# Altium footprint library footprints_library_legacy.pcblib: 29 footprints (part 2 of 2)
Each footprint in its own frame and in the unit in brackets; x right, y up, seen from the top. Pads: shape width x height; smd on the part's side, far side on the other; paste and mask are expansions set on the pad; w line width, h text height; cw(c..) or ccw(c..) is an arc to the next point about the centre after c.
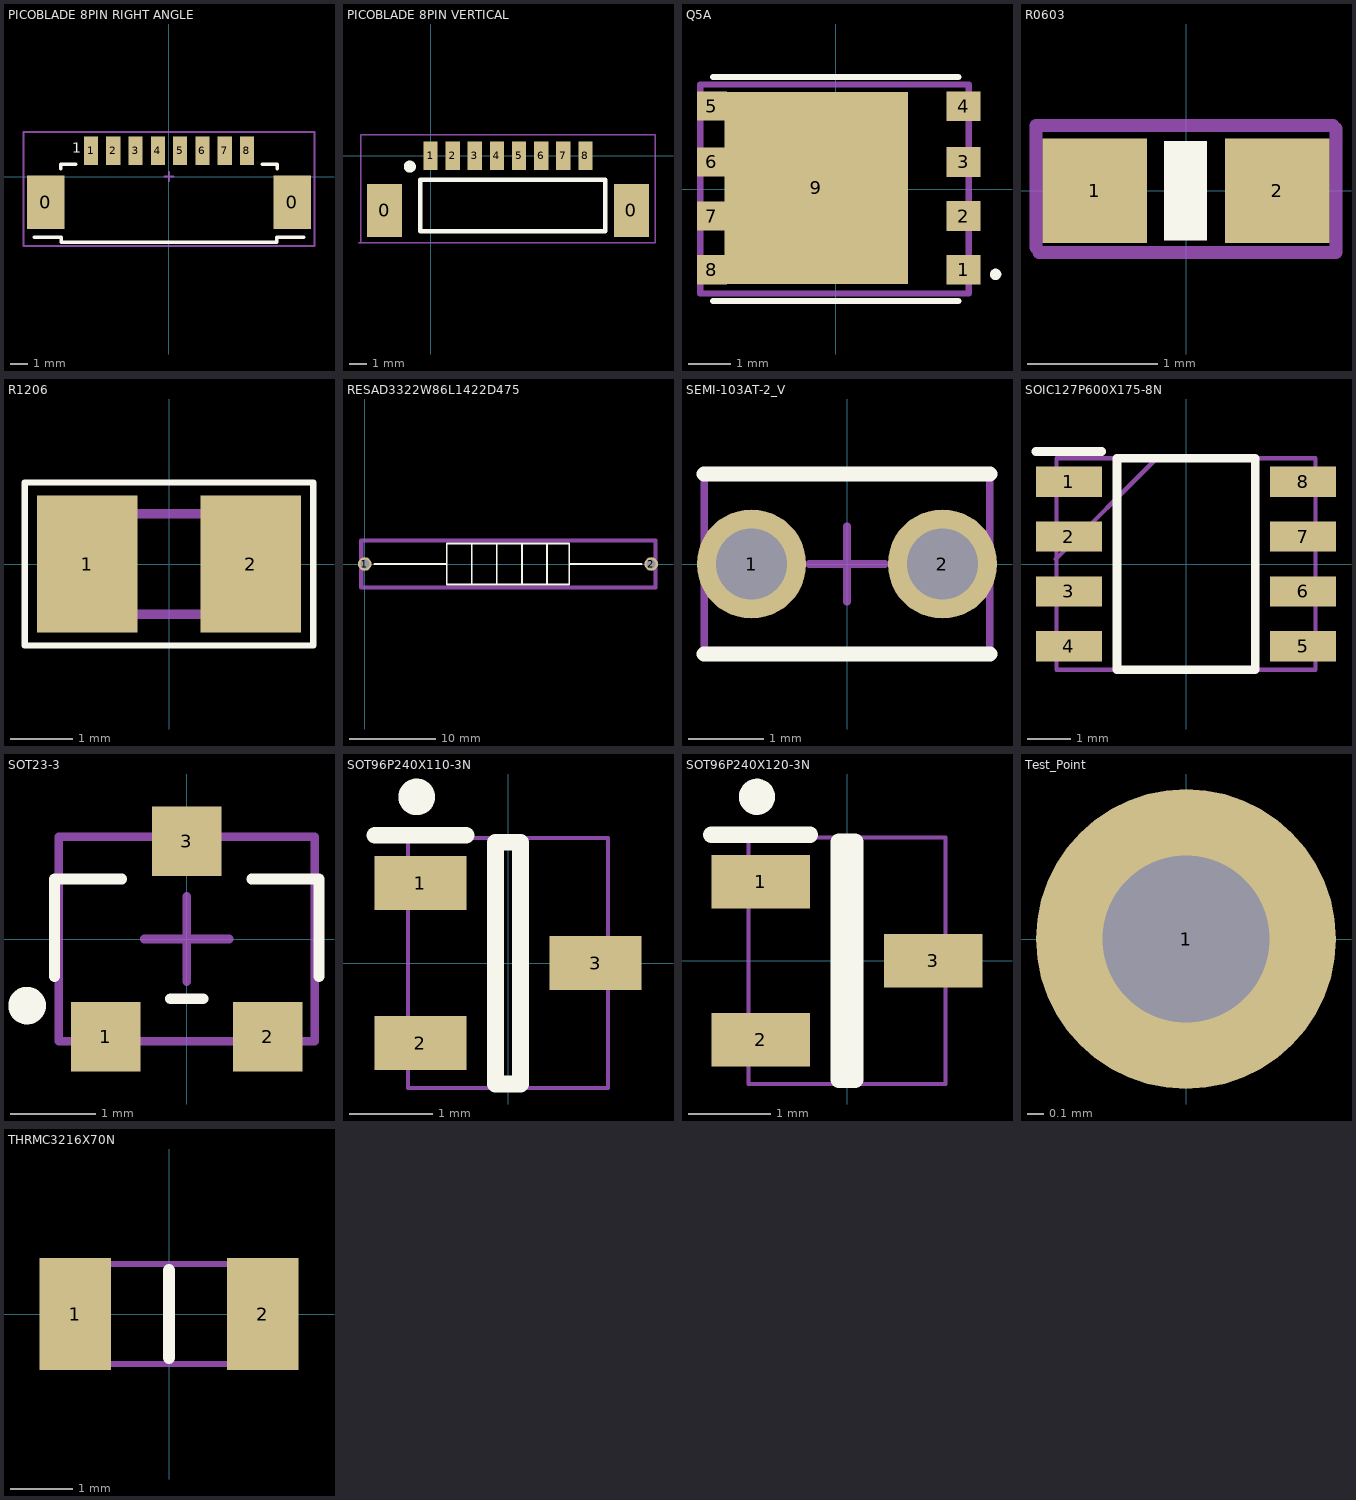
[diagram p1: the footprints below, top view; thin cyan lines are the x and y axes]

## PICOBLADE 8PIN RIGHT ANGLE [mm]
height 3.4
pads (10):
  rect 2.1x3 smd: 0(-6.925,-1.45) 0(6.925,-1.45)
  rect 0.8x1.6 smd: 1(-4.375,1.45) 2(-3.125,1.45) 3(-1.875,1.45) 4(-0.625,1.45) 5(0.625,1.45) 6(1.875,1.45) 7(3.125,1.45) 8(4.375,1.45)
Top Overlay:
  lines w0.2: -7.575,-3.4 -6.061,-3.4 -6.061,-3.7 6.061,-3.7 6.061,-3.4 7.575,-3.4 ; -6.075,0.45 -6.075,0.7 -5.25,0.7 ; 5.25,0.7 6.075,0.7 6.075,0.45
  text "1" at -5.425,1.15 h1
Top ASM Top/ASM Bottom:
  lines w0.1: -0.25,0 0.25,0 ; 0,-0.25 0,0.25 ; -8.175,-3.9 -8.175,2.5 8.175,2.5 8.175,-3.9 -8.175,-3.9
  text ".Designator" at -4.141,1.088 h0.89
3D body "User Library-molex 53261 white (6).step": height 3.5, standoff 0, extent -7.575,-3.6 7.575,1.6

## PICOBLADE 8PIN VERTICAL [mm]
height 3.1
pads (10):
  rect 2x3 smd: 0(-2.6,-3.1) 0(11.35,-3.1)
  rect 0.8x1.6 smd: 1(0,0) 2(1.25,0) 3(2.5,0) 4(3.75,0) 5(5,0) 6(6.25,0) 7(7.5,0) 8(8.75,0)
Top Overlay:
  circle w0.5: c-1.175,-0.625 r0.09
  lines w0.254: -0.574,-4.275 -0.574,-1.372 9.875,-1.372 9.875,-4.275 -0.574,-4.275
Top ASM Top/ASM Bottom:
  lines w0.1: -4.05,-4.925 12.7,-4.925 12.7,1.175 -3.95,1.175 -3.95,-4.95
  text ".Designator" at -3.341,-1.212 h0.89
3D body "User Library-molex 5339853398-0871.STEP": height 4.7, standoff 0, extent -3.225,-4.4 11.925,-0.2

## Q5A [mm]
pads (9):
  rect 0.8x0.7 smd: 1(3,-1.893) 2(3,-0.635) 3(3,0.635) 4(3,1.94)
  rect 0.7x0.68 smd: 5(-2.9,1.94) 6(-2.9,0.635) 7(-2.9,-0.635) 8(-2.9,-1.893)
  rect 4.3x4.5 smd: 9(-0.45,0.025)
Top Overlay:
  circle w0.2: c3.75,-2 r0.033
  lines w0.15: -2.875,-2.625 2.875,-2.625 ; -2.875,2.625 2.875,2.625
Top ASM Top/ASM Bottom:
  lines w0.15: -3.175,-2.45 3.125,-2.45 3.125,2.45 -3.175,2.45 -3.175,-2.45
  text "'.Designator'" at -2.375,1.55 h0.5
3D body "DQJ0008A.stp": height 1.15, standoff 0, extent -3.13,-2.45 3.13,2.45

## R0603 [mm]
height 3.1
pads (2):
  rect 0.8x0.8 smd: 1(-0.699,0) 2(0.699,0)
Top Overlay:
  rectangle: -0.167,-0.381 0.163,0.381
Top ASM Top/ASM Bottom:
  lines w0.1: -1.15,-0.437 -1.15,-0.206 -1.15,0.256 -1.15,0.487 ; -1.15,0.5 1.125,0.5 ; -1.125,-0.475 1.15,-0.475 1.15,0.475
  text ".Designator" at -0.916,-0.112 h0.89
3D body "RES0603(1608M).STEP": height 0.79, standoff 0, extent -0.998,-0.394 1.002,0.394

## R1206 [mm]
pads (2):
  rect 1.6x2.18 smd: 1(-1.3,0) 2(1.3,0)
Top Overlay:
  lines w0.1: -2.3,-1.3 2.3,-1.3 2.3,1.3 -2.3,1.3 -2.3,-1.3
Top ASM Top/ASM Bottom:
  lines w0.15: -1.6,-0.8 -1.6,0.8 1.6,0.8 1.6,-0.8 -1.6,-0.8
  text "'.Designator'" at -1.2,-0.3 h0.7
3D body "User Library-CR3216-1206.STEP": height -0.5, standoff -1.1, extent -1.6,-0.8 1.6,0.8

## RESAD3322W86L1422D475 [mm]
pads (2):
  round 1.575 hole 1.05: 1(0,0) 2(33.2,0)
Top Overlay:
  lines w0.2: 1.138,0 9.49,0 ; 12.4,-2.375 12.4,2.375 ; 15.31,-2.375 15.31,2.375 ; 18.22,-2.375 18.22,2.375 ; 21.13,-2.375 21.13,2.375 ; 23.71,0 32.062,0 ; 9.49,-2.375 23.71,-2.375 23.71,2.375 9.49,2.375 9.49,-2.375
Top ASM Top/ASM Bottom:
  lines w0.5: -0.4,-2.725 33.7,-2.725 33.7,2.725 -0.4,2.725 -0.4,-2.725
  text "'.Designator'" at 2.1,0.6 h1
3D body "RS02B24R00FE12.stp": height 7.04, standoff -4.04, extent -0.429,-2.765 33.652,2.765

## SEMI-103AT-2_V [mm] "THD, 2-Leads, Body Width 3.8mm (Max), Pitch 2.54mm"
height 9.5
pads (2):
  round 1.45 hole 0.95: 1(-1.27,0) 2(1.27,0)
Top Overlay:
  lines w0.2: -1.9,-1.2 1.9,-1.2 ; -1.9,1.2 1.9,1.2
Top ASM Top/ASM Bottom:
  lines w0.1: -0.5,0 0.5,0 ; 0,-0.5 0,0.5 ; -1.9,-1.2 1.9,-1.2 1.9,1.2 -1.9,1.2 -1.9,-1.2
  text "'.Designator'" at -1.7,-0.1 h1
3D body: height 3.5, standoff -1.5, extent -1.617,-0.349 -0.92,0.35
3D body: height 3.5, standoff -1.5, extent 0.923,-0.349 1.62,0.349
3D body: height 6.5, standoff 3.5, extent -1.899,-1.199 1.899,1.199
3D body: height 60, standoff 0, extent 6.35,1.15 6.35,1.15

## SOIC127P600X175-8N [mm]
pads (8):
  rect 1.525x0.7 smd: 1(-2.712,1.905) 2(-2.712,0.635) 3(-2.712,-0.635) 4(-2.712,-1.905) 5(2.712,-1.905) 6(2.712,-0.635) 7(2.712,0.635) 8(2.712,1.905)
Top Overlay:
  lines w0.2: -3.475,2.605 -1.95,2.605 ; -1.6,-2.45 -1.6,2.45 1.6,2.45 1.6,-2.45 -1.6,-2.45
Top ASM Top/ASM Bottom:
  lines w0.1: -3.015,0.115 -0.68,2.45 ; -3,-2.45 3,-2.45 3,2.45 -3,2.45 -3,-2.45
  text "'.Designator'" at -0.2,1.1 h1
3D body "FDS6898AZ.stp": height 1.75, standoff 0, extent -3,-2.45 3,2.45

## SOT23-3 [mil]
pads (3):
  rect 32x32 smd: 1(-37.4,-45.1) 2(37.4,-45.1) 3(0,45.1)
Top Overlay:
  circle w9.84: c-73.62,-30.71 r3.74
  lines w5: -61,-17.32 -61,27.6 -30,27.6 ; -7.48,-27.56 7.48,-27.56 ; 30,27.6 61,27.6 61,-17.32
Top ASM Top/ASM Bottom:
  lines w3.94: -19.68,0 19.68,0 ; 0,-19.69 0,19.68 ; -59.06,-47.24 -59.06,47.24 59.06,47.24 59.06,-47.24 -59.06,-47.24
  text "'.Designator'" at 47.24,-35.43 h39.37
3D body "BAS16-7-F.stp": height 43.31, standoff 0, extent -57.09,-47.24 57.08,47.25

## SOT96P240X110-3N [mm]
pads (3):
  rect 1.1x0.65 smd: 1(-1.05,0.96) 2(-1.05,-0.96) 3(1.05,0)
Top Overlay:
  circle w0.25: c-1.095,1.995 r0.095
  lines w0.2: -1.6,1.535 -0.5,1.535 ; -0.15,-1.45 -0.15,1.45 0.15,1.45 0.15,-1.45 -0.15,-1.45
Top ASM Top/ASM Bottom:
  lines w0.05: -1.2,-1.5 -1.2,1.5 1.2,1.5 1.2,-1.5 -1.2,-1.5
  text "'.Designator'" at -0.9,0.2 h1
3D body "BAS16-7-F.stp": height 1.1, standoff 0, extent -1.2,-1.45 1.2,1.45

## SOT96P240X120-3N [mm]
pads (3):
  rect 1.2x0.65 smd: 1(-1.05,0.96) 2(-1.05,-0.96) 3(1.05,0)
Top Overlay:
  circle w0.25: c-1.095,1.995 r0.095
  lines w0.2: -1.65,1.535 -0.45,1.535 ; -0.1,-1.45 0.1,-1.45 0.1,1.45 -0.1,1.45 -0.1,-1.45
Top ASM Top/ASM Bottom:
  lines w0.05: -1.2,-1.5 1.2,-1.5 1.2,1.5 -1.2,1.5 -1.2,-1.5
  text "'.Designator'" at -0.9,0.2 h1
3D body "2N7002.stp": height 1.2, standoff 0, extent -1.2,-1.45 1.2,1.45

## Test_Point [mm]
pads (1):
  round 1.8 hole 1: 1(0,0)

## THRMC3216X70N [mm]
pads (2):
  rect 1.15x1.8 smd: 1(-1.5,0) 2(1.5,0)
Top Overlay:
  lines w0.2: 0,-0.7 0,0.7
Top ASM Top/ASM Bottom:
  lines w0.1: -1.6,-0.8 -1.6,0.8 1.6,0.8 1.6,-0.8 -1.6,-0.8
  text "'.Designator'" at -1.3,-0.5 h1
3D body "32207595.stp": height 0.7, standoff 0, extent -1.6,-0.8 1.6,0.8